# Altium schematic symbol library Regulator_Linear.SchLib: 1620 symbols (part 1 of 16)
Pins are listed as number, name and electrical type; pins without a type are passive.

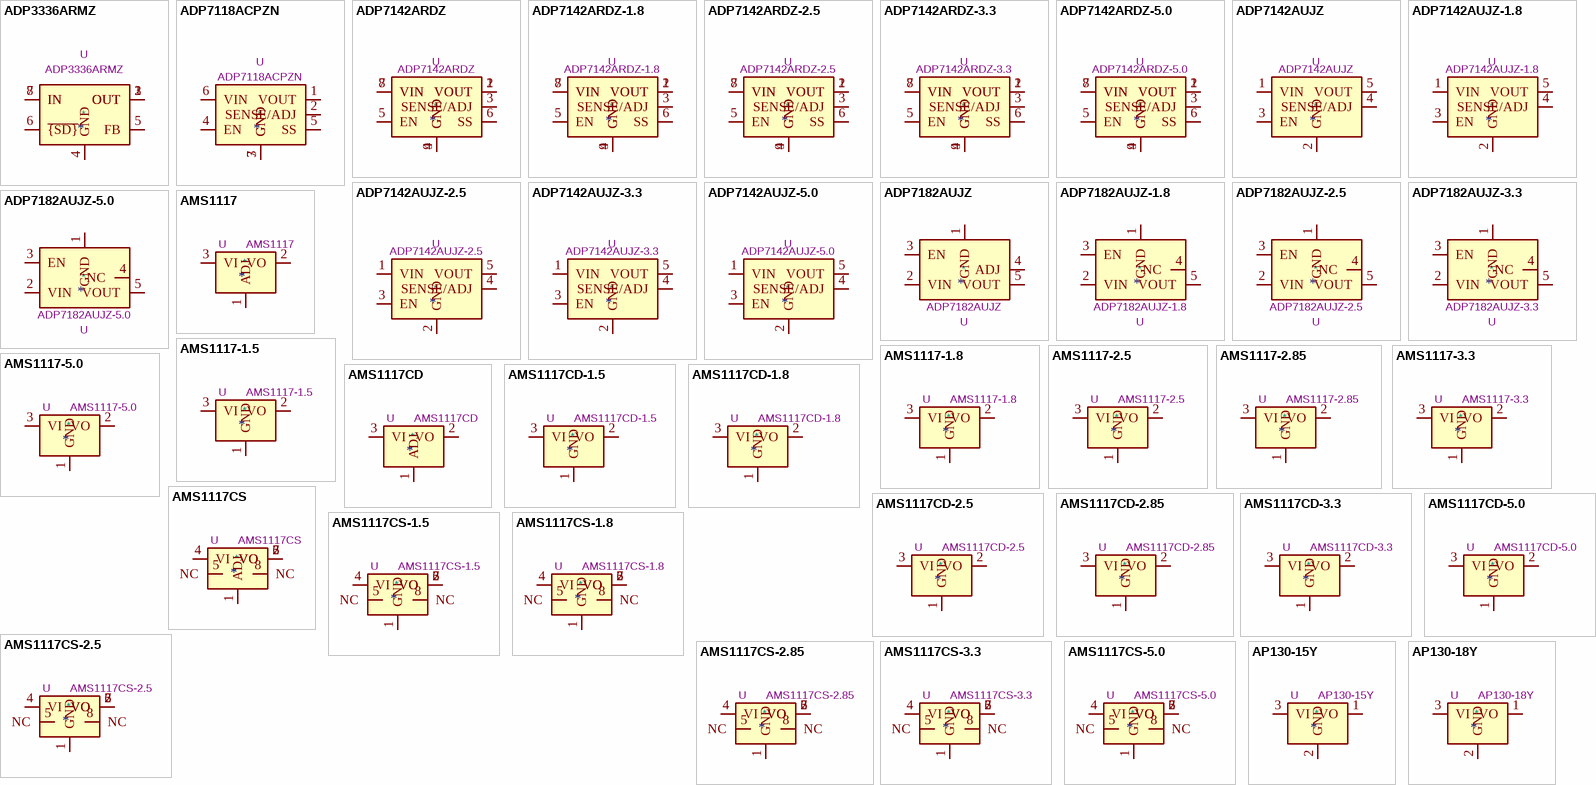
[diagram p0: symbols ADP3336ARMZ to AP130-18Y]

## ADP3336ARMZ
designator *  value ADP3336ARMZ  Reference: U
High Accuracy Ultralow IQ, 500mA anyCAP Adjustable Low Dropout Regulator, MSOP-8; ki_keywords: linear regulator ldo adjustable positive; ki_fp_filters: MSOP*3x3mm*P0.65mm*; Footprint: Package_SO:MSOP-8_3x3mm_P0.65mm; Datasheet: https://www.analog.com/media/en/technical-documentation/data-sheets/ADP3336.pdf; Description_: High Accuracy Ultralow IQ, 500mA anyCAP Adjustable Low Dropout Regulator, MSOP-8
pins: 1 OUT, 2 OUT, 3 OUT, 4 GND, 5 FB, 6 ~{{SD}}, 7 IN, 8 IN

## ADP7118ACPZN
designator *  value ADP7118ACPZN  Reference: U
200mA, Low Noise, CMOS Low Dropout Regulator, Positive, Adjustable, LFCSP-6; ki_keywords: linear regulator ldo adjustable positive; ki_fp_filters: LFCSP*1EP*2x2mm*P0.65mm*; Footprint: Package_CSP:LFCSP-6-1EP_2x2mm_P0.65mm_EP1x1.6mm; Datasheet: https://www.analog.com/media/en/technical-documentation/data-sheets/ADP7142.pdf; Description_: 200mA, Low Noise, CMOS Low Dropout Regulator, Positive, Adjustable, LFCSP-6
pins: 1 VOUT, 2 SENSE/ADJ, 3 GND, 4 EN, 5 SS, 6 VIN, 7 GND

## ADP7142ARDZ
designator *  value ADP7142ARDZ  Reference: U
200mA, Low Noise, CMOS Low Dropout Regulator, Positive, Adjustable, SOIC-8; ki_keywords: linear regulator ldo adjustable positive; ki_fp_filters: SOIC*1EP*3.9x4.9mm*P1.27mm*; Footprint: Package_SO:SOIC-8-1EP_3.9x4.9mm_P1.27mm_EP2.29x3mm; Datasheet: https://www.analog.com/media/en/technical-documentation/data-sheets/ADP7142.pdf; Description_: 200mA, Low Noise, CMOS Low Dropout Regulator, Positive, Adjustable, SOIC-8
pins: 1 VOUT, 2 VOUT, 3 SENSE/ADJ, 4 GND, 5 EN, 6 SS, 7 VIN, 8 VIN, 9 GND

## ADP7142ARDZ-1.8
designator *  value ADP7142ARDZ-1.8  Reference: U
200mA, Low Noise, CMOS Low Dropout Regulator, Positive, 1.8V Fixed Output, SOIC-8; ki_keywords: linear regulator ldo fixed positive; ki_fp_filters: SOIC*1EP*3.9x4.9mm*P1.27mm*; Footprint: Package_SO:SOIC-8-1EP_3.9x4.9mm_P1.27mm_EP2.29x3mm; Datasheet: https://www.analog.com/media/en/technical-documentation/data-sheets/ADP7142.pdf; Description_: 200mA, Low Noise, CMOS Low Dropout Regulator, Positive, 1.8V Fixed Output, SOIC-8
pins: 1 VOUT, 2 VOUT, 3 SENSE/ADJ, 4 GND, 5 EN, 6 SS, 7 VIN, 8 VIN, 9 GND

## ADP7142ARDZ-2.5
designator *  value ADP7142ARDZ-2.5  Reference: U
200mA, Low Noise, CMOS Low Dropout Regulator, Positive, 2.5V Fixed Output, SOIC-8; ki_keywords: linear regulator ldo fixed positive; ki_fp_filters: SOIC*1EP*3.9x4.9mm*P1.27mm*; Footprint: Package_SO:SOIC-8-1EP_3.9x4.9mm_P1.27mm_EP2.29x3mm; Datasheet: https://www.analog.com/media/en/technical-documentation/data-sheets/ADP7142.pdf; Description_: 200mA, Low Noise, CMOS Low Dropout Regulator, Positive, 2.5V Fixed Output, SOIC-8
pins: 1 VOUT, 2 VOUT, 3 SENSE/ADJ, 4 GND, 5 EN, 6 SS, 7 VIN, 8 VIN, 9 GND

## ADP7142ARDZ-3.3
designator *  value ADP7142ARDZ-3.3  Reference: U
200mA, Low Noise, CMOS Low Dropout Regulator, Positive, 3.3V Fixed Output, SOIC-8; ki_keywords: linear regulator ldo fixed positive; ki_fp_filters: SOIC*1EP*3.9x4.9mm*P1.27mm*; Footprint: Package_SO:SOIC-8-1EP_3.9x4.9mm_P1.27mm_EP2.29x3mm; Datasheet: https://www.analog.com/media/en/technical-documentation/data-sheets/ADP7142.pdf; Description_: 200mA, Low Noise, CMOS Low Dropout Regulator, Positive, 3.3V Fixed Output, SOIC-8
pins: 1 VOUT, 2 VOUT, 3 SENSE/ADJ, 4 GND, 5 EN, 6 SS, 7 VIN, 8 VIN, 9 GND

## ADP7142ARDZ-5.0
designator *  value ADP7142ARDZ-5.0  Reference: U
200mA, Low Noise, CMOS Low Dropout Regulator, Positive, 5.0V Fixed Output, SOIC-8; ki_keywords: linear regulator ldo fixed positive; ki_fp_filters: SOIC*1EP*3.9x4.9mm*P1.27mm*; Footprint: Package_SO:SOIC-8-1EP_3.9x4.9mm_P1.27mm_EP2.29x3mm; Datasheet: https://www.analog.com/media/en/technical-documentation/data-sheets/ADP7142.pdf; Description_: 200mA, Low Noise, CMOS Low Dropout Regulator, Positive, 5.0V Fixed Output, SOIC-8
pins: 1 VOUT, 2 VOUT, 3 SENSE/ADJ, 4 GND, 5 EN, 6 SS, 7 VIN, 8 VIN, 9 GND

## ADP7142AUJZ
designator *  value ADP7142AUJZ  Reference: U
200mA, Low Noise, CMOS Low Dropout Regulator, Positive, Adjustable, TSOT-23-5; ki_keywords: linear regulator ldo adjustable positive; ki_fp_filters: TSOT?23*; Footprint: Package_TO_SOT_SMD:TSOT-23-5; Datasheet: https://www.analog.com/media/en/technical-documentation/data-sheets/ADP7142.pdf; Description_: 200mA, Low Noise, CMOS Low Dropout Regulator, Positive, Adjustable, TSOT-23-5
pins: 1 VIN, 2 GND, 3 EN, 4 SENSE/ADJ, 5 VOUT

## ADP7142AUJZ-1.8
designator *  value ADP7142AUJZ-1.8  Reference: U
200mA, Low Noise, CMOS Low Dropout Regulator, Positive, 1.8V Fixed Output, TSOT-23-5; ki_keywords: linear regulator ldo fixed positive; ki_fp_filters: TSOT?23*; Footprint: Package_TO_SOT_SMD:TSOT-23-5; Datasheet: https://www.analog.com/media/en/technical-documentation/data-sheets/ADP7142.pdf; Description_: 200mA, Low Noise, CMOS Low Dropout Regulator, Positive, 1.8V Fixed Output, TSOT-23-5
pins: 1 VIN, 2 GND, 3 EN, 4 SENSE/ADJ, 5 VOUT

## ADP7142AUJZ-2.5
designator *  value ADP7142AUJZ-2.5  Reference: U
200mA, Low Noise, CMOS Low Dropout Regulator, Positive, 2.5V Fixed Output, TSOT-23-5; ki_keywords: linear regulator ldo fixed positive; ki_fp_filters: TSOT?23*; Footprint: Package_TO_SOT_SMD:TSOT-23-5; Datasheet: https://www.analog.com/media/en/technical-documentation/data-sheets/ADP7142.pdf; Description_: 200mA, Low Noise, CMOS Low Dropout Regulator, Positive, 2.5V Fixed Output, TSOT-23-5
pins: 1 VIN, 2 GND, 3 EN, 4 SENSE/ADJ, 5 VOUT

## ADP7142AUJZ-3.3
designator *  value ADP7142AUJZ-3.3  Reference: U
200mA, Low Noise, CMOS Low Dropout Regulator, Positive, 3.3V Fixed Output, TSOT-23-5; ki_keywords: linear regulator ldo fixed positive; ki_fp_filters: TSOT?23*; Footprint: Package_TO_SOT_SMD:TSOT-23-5; Datasheet: https://www.analog.com/media/en/technical-documentation/data-sheets/ADP7142.pdf; Description_: 200mA, Low Noise, CMOS Low Dropout Regulator, Positive, 3.3V Fixed Output, TSOT-23-5
pins: 1 VIN, 2 GND, 3 EN, 4 SENSE/ADJ, 5 VOUT

## ADP7142AUJZ-5.0
designator *  value ADP7142AUJZ-5.0  Reference: U
200mA, Low Noise, CMOS Low Dropout Regulator, Positive, 5.0V Fixed Output, TSOT-23-5; ki_keywords: linear regulator ldo fixed positive; ki_fp_filters: TSOT?23*; Footprint: Package_TO_SOT_SMD:TSOT-23-5; Datasheet: https://www.analog.com/media/en/technical-documentation/data-sheets/ADP7142.pdf; Description_: 200mA, Low Noise, CMOS Low Dropout Regulator, Positive, 5.0V Fixed Output, TSOT-23-5
pins: 1 VIN, 2 GND, 3 EN, 4 SENSE/ADJ, 5 VOUT

## ADP7182AUJZ
designator *  value ADP7182AUJZ  Reference: U
200mA, Low Noise, CMOS Low Dropout Regulator, Negative, Adjustable, TSOT-23-5; ki_keywords: linear regulator ldo adjustable negative; ki_fp_filters: TSOT?23*; Footprint: Package_TO_SOT_SMD:TSOT-23-5; Datasheet: https://www.analog.com/media/en/technical-documentation/data-sheets/ADP7182.pdf; Description_: 200mA, Low Noise, CMOS Low Dropout Regulator, Negative, Adjustable, TSOT-23-5
pins: 1 GND, 2 VIN, 3 EN, 4 ADJ, 5 VOUT

## ADP7182AUJZ-1.8
designator *  value ADP7182AUJZ-1.8  Reference: U
200mA, Low Noise, CMOS Low Dropout Regulator, Negative, -1.8V Fixed Output, TSOT-23-5; ki_keywords: linear regulator ldo fixed negative; ki_fp_filters: TSOT?23*; Footprint: Package_TO_SOT_SMD:TSOT-23-5; Datasheet: https://www.analog.com/media/en/technical-documentation/data-sheets/ADP7182.pdf; Description_: 200mA, Low Noise, CMOS Low Dropout Regulator, Negative, -1.8V Fixed Output, TSOT-23-5
pins: 1 GND, 2 VIN, 3 EN, 4 NC, 5 VOUT

## ADP7182AUJZ-2.5
designator *  value ADP7182AUJZ-2.5  Reference: U
200mA, Low Noise, CMOS Low Dropout Regulator, Negative, -2.5V Fixed Output, TSOT-23-5; ki_keywords: linear regulator ldo fixed negative; ki_fp_filters: TSOT?23*; Footprint: Package_TO_SOT_SMD:TSOT-23-5; Datasheet: https://www.analog.com/media/en/technical-documentation/data-sheets/ADP7182.pdf; Description_: 200mA, Low Noise, CMOS Low Dropout Regulator, Negative, -2.5V Fixed Output, TSOT-23-5
pins: 1 GND, 2 VIN, 3 EN, 4 NC, 5 VOUT

## ADP7182AUJZ-3.3
designator *  value ADP7182AUJZ-3.3  Reference: U
200mA, Low Noise, CMOS Low Dropout Regulator, Negative, -3.3V Fixed Output, TSOT-23-5; ki_keywords: linear regulator ldo fixed negative; ki_fp_filters: TSOT?23*; Footprint: Package_TO_SOT_SMD:TSOT-23-5; Datasheet: https://www.analog.com/media/en/technical-documentation/data-sheets/ADP7182.pdf; Description_: 200mA, Low Noise, CMOS Low Dropout Regulator, Negative, -3.3V Fixed Output, TSOT-23-5
pins: 1 GND, 2 VIN, 3 EN, 4 NC, 5 VOUT

## ADP7182AUJZ-5.0
designator *  value ADP7182AUJZ-5.0  Reference: U
200mA, Low Noise, CMOS Low Dropout Regulator, Negative, -5.0V Fixed Output, TSOT-23-5; ki_keywords: linear regulator ldo fixed negative; ki_fp_filters: TSOT?23*; Footprint: Package_TO_SOT_SMD:TSOT-23-5; Datasheet: https://www.analog.com/media/en/technical-documentation/data-sheets/ADP7182.pdf; Description_: 200mA, Low Noise, CMOS Low Dropout Regulator, Negative, -5.0V Fixed Output, TSOT-23-5
pins: 1 GND, 2 VIN, 3 EN, 4 NC, 5 VOUT

## AMS1117
designator *  value AMS1117  Reference: U
1A Low Dropout regulator, positive, adjustable output, SOT-223; ki_keywords: linear regulator ldo adjustable positive; ki_fp_filters: SOT?223*TabPin2*; Footprint: Package_TO_SOT_SMD:SOT-223-3_TabPin2; Datasheet: http://www.advanced-monolithic.com/pdf/ds1117.pdf; Description_: 1A Low Dropout regulator, positive, adjustable output, SOT-223
pins: 1 ADJ, 2 VO, 3 VI

## AMS1117-1.5
designator *  value AMS1117-1.5  Reference: U
1A Low Dropout regulator, positive, 1.5V fixed output, SOT-223; ki_keywords: linear regulator ldo fixed positive; ki_fp_filters: SOT?223*TabPin2*; Footprint: Package_TO_SOT_SMD:SOT-223-3_TabPin2; Datasheet: http://www.advanced-monolithic.com/pdf/ds1117.pdf; Description_: 1A Low Dropout regulator, positive, 1.5V fixed output, SOT-223
pins: 1 GND, 2 VO, 3 VI

## AMS1117-1.8
designator *  value AMS1117-1.8  Reference: U
1A Low Dropout regulator, positive, 1.8V fixed output, SOT-223; ki_keywords: linear regulator ldo fixed positive; ki_fp_filters: SOT?223*TabPin2*; Footprint: Package_TO_SOT_SMD:SOT-223-3_TabPin2; Datasheet: http://www.advanced-monolithic.com/pdf/ds1117.pdf; Description_: 1A Low Dropout regulator, positive, 1.8V fixed output, SOT-223
pins: 1 GND, 2 VO, 3 VI

## AMS1117-2.5
designator *  value AMS1117-2.5  Reference: U
1A Low Dropout regulator, positive, 2.5V fixed output, SOT-223; ki_keywords: linear regulator ldo fixed positive; ki_fp_filters: SOT?223*TabPin2*; Footprint: Package_TO_SOT_SMD:SOT-223-3_TabPin2; Datasheet: http://www.advanced-monolithic.com/pdf/ds1117.pdf; Description_: 1A Low Dropout regulator, positive, 2.5V fixed output, SOT-223
pins: 1 GND, 2 VO, 3 VI

## AMS1117-2.85
designator *  value AMS1117-2.85  Reference: U
1A Low Dropout regulator, positive, 2.85V fixed output, SOT-223; ki_keywords: linear regulator ldo fixed positive; ki_fp_filters: SOT?223*TabPin2*; Footprint: Package_TO_SOT_SMD:SOT-223-3_TabPin2; Datasheet: http://www.advanced-monolithic.com/pdf/ds1117.pdf; Description_: 1A Low Dropout regulator, positive, 2.85V fixed output, SOT-223
pins: 1 GND, 2 VO, 3 VI

## AMS1117-3.3
designator *  value AMS1117-3.3  Reference: U
1A Low Dropout regulator, positive, 3.3V fixed output, SOT-223; ki_keywords: linear regulator ldo fixed positive; ki_fp_filters: SOT?223*TabPin2*; Footprint: Package_TO_SOT_SMD:SOT-223-3_TabPin2; Datasheet: http://www.advanced-monolithic.com/pdf/ds1117.pdf; Description_: 1A Low Dropout regulator, positive, 3.3V fixed output, SOT-223
footprint SOT-223-3_TabPin2
pins: 1 GND, 2 VO, 3 VI

## AMS1117-5.0
designator *  value AMS1117-5.0  Reference: U
1A Low Dropout regulator, positive, 5.0V fixed output, SOT-223; ki_keywords: linear regulator ldo fixed positive; ki_fp_filters: SOT?223*TabPin2*; Footprint: Package_TO_SOT_SMD:SOT-223-3_TabPin2; Datasheet: http://www.advanced-monolithic.com/pdf/ds1117.pdf; Description_: 1A Low Dropout regulator, positive, 5.0V fixed output, SOT-223
pins: 1 GND, 2 VO, 3 VI

## AMS1117CD
designator *  value AMS1117CD  Reference: U
1A Low Dropout regulator, positive, adjustable output, TO-252; ki_keywords: linear regulator ldo fixed positive; ki_fp_filters: TO?252*TabPin2*; Footprint: Package_TO_SOT_SMD:TO-252-3_TabPin2; Datasheet: http://www.advanced-monolithic.com/pdf/ds1117.pdf; Description_: 1A Low Dropout regulator, positive, adjustable output, TO-252
pins: 1 ADJ, 2 VO, 3 VI

## AMS1117CD-1.5
designator *  value AMS1117CD-1.5  Reference: U
1A Low Dropout regulator, positive, 1.5V fixed output, TO-252; ki_keywords: linear regulator ldo fixed positive; ki_fp_filters: TO?252*TabPin2*; Footprint: Package_TO_SOT_SMD:TO-252-3_TabPin2; Datasheet: http://www.advanced-monolithic.com/pdf/ds1117.pdf; Description_: 1A Low Dropout regulator, positive, 1.5V fixed output, TO-252
pins: 1 GND, 2 VO, 3 VI

## AMS1117CD-1.8
designator *  value AMS1117CD-1.8  Reference: U
1A Low Dropout regulator, positive, 1.8V fixed output, TO-252; ki_keywords: linear regulator ldo fixed positive; ki_fp_filters: TO?252*TabPin2*; Footprint: Package_TO_SOT_SMD:TO-252-3_TabPin2; Datasheet: http://www.advanced-monolithic.com/pdf/ds1117.pdf; Description_: 1A Low Dropout regulator, positive, 1.8V fixed output, TO-252
pins: 1 GND, 2 VO, 3 VI

## AMS1117CD-2.5
designator *  value AMS1117CD-2.5  Reference: U
1A Low Dropout regulator, positive, 2.5V fixed output, TO-252; ki_keywords: linear regulator ldo fixed positive; ki_fp_filters: TO?252*TabPin2*; Footprint: Package_TO_SOT_SMD:TO-252-3_TabPin2; Datasheet: http://www.advanced-monolithic.com/pdf/ds1117.pdf; Description_: 1A Low Dropout regulator, positive, 2.5V fixed output, TO-252
pins: 1 GND, 2 VO, 3 VI

## AMS1117CD-2.85
designator *  value AMS1117CD-2.85  Reference: U
1A Low Dropout regulator, positive, 2.85V fixed output, TO-252; ki_keywords: linear regulator ldo fixed positive; ki_fp_filters: TO?252*TabPin2*; Footprint: Package_TO_SOT_SMD:TO-252-3_TabPin2; Datasheet: http://www.advanced-monolithic.com/pdf/ds1117.pdf; Description_: 1A Low Dropout regulator, positive, 2.85V fixed output, TO-252
pins: 1 GND, 2 VO, 3 VI

## AMS1117CD-3.3
designator *  value AMS1117CD-3.3  Reference: U
1A Low Dropout regulator, positive, 3.3V fixed output, TO-252; ki_keywords: linear regulator ldo fixed positive; ki_fp_filters: TO?252*TabPin2*; Footprint: Package_TO_SOT_SMD:TO-252-3_TabPin2; Datasheet: http://www.advanced-monolithic.com/pdf/ds1117.pdf; Description_: 1A Low Dropout regulator, positive, 3.3V fixed output, TO-252
pins: 1 GND, 2 VO, 3 VI

## AMS1117CD-5.0
designator *  value AMS1117CD-5.0  Reference: U
1A Low Dropout regulator, positive, 5.0V fixed output, TO-252; ki_keywords: linear regulator ldo fixed positive; ki_fp_filters: TO?252*TabPin2*; Footprint: Package_TO_SOT_SMD:TO-252-3_TabPin2; Datasheet: http://www.advanced-monolithic.com/pdf/ds1117.pdf; Description_: 1A Low Dropout regulator, positive, 5.0V fixed output, TO-252
pins: 1 GND, 2 VO, 3 VI

## AMS1117CS
designator *  value AMS1117CS  Reference: U
1A Low Dropout regulator, positive, adjustable output, SOIC-8; ki_keywords: linear regulator ldo fixed positive; ki_fp_filters: SOIC*3.9x4.9mm*P1.27mm*; Footprint: Package_SO:SOIC-8_3.9x4.9mm_P1.27mm; Datasheet: http://www.advanced-monolithic.com/pdf/ds1117.pdf; Description_: 1A Low Dropout regulator, positive, adjustable output, SOIC-8
pins: 1 ADJ, 2 VO, 3 VO, 4 VI, 5 NC, 6 VO, 7 VO, 8 NC

## AMS1117CS-1.5
designator *  value AMS1117CS-1.5  Reference: U
1A Low Dropout regulator, positive, 1.5V fixed output, SOIC-8; ki_keywords: linear regulator ldo fixed positive; ki_fp_filters: SOIC*3.9x4.9mm*P1.27mm*; Footprint: Package_SO:SOIC-8_3.9x4.9mm_P1.27mm; Datasheet: http://www.advanced-monolithic.com/pdf/ds1117.pdf; Description_: 1A Low Dropout regulator, positive, 1.5V fixed output, SOIC-8
pins: 1 GND, 2 VO, 3 VO, 4 VI, 5 NC, 6 VO, 7 VO, 8 NC

## AMS1117CS-1.8
designator *  value AMS1117CS-1.8  Reference: U
1A Low Dropout regulator, positive, 1.8V fixed output, SOIC-8; ki_keywords: linear regulator ldo fixed positive; ki_fp_filters: SOIC*3.9x4.9mm*P1.27mm*; Footprint: Package_SO:SOIC-8_3.9x4.9mm_P1.27mm; Datasheet: http://www.advanced-monolithic.com/pdf/ds1117.pdf; Description_: 1A Low Dropout regulator, positive, 1.8V fixed output, SOIC-8
pins: 1 GND, 2 VO, 3 VO, 4 VI, 5 NC, 6 VO, 7 VO, 8 NC

## AMS1117CS-2.5
designator *  value AMS1117CS-2.5  Reference: U
1A Low Dropout regulator, positive, 2.5V fixed output, SOIC-8; ki_keywords: linear regulator ldo fixed positive; ki_fp_filters: SOIC*3.9x4.9mm*P1.27mm*; Footprint: Package_SO:SOIC-8_3.9x4.9mm_P1.27mm; Datasheet: http://www.advanced-monolithic.com/pdf/ds1117.pdf; Description_: 1A Low Dropout regulator, positive, 2.5V fixed output, SOIC-8
pins: 1 GND, 2 VO, 3 VO, 4 VI, 5 NC, 6 VO, 7 VO, 8 NC

## AMS1117CS-2.85
designator *  value AMS1117CS-2.85  Reference: U
1A Low Dropout regulator, positive, 2.85V fixed output, SOIC-8; ki_keywords: linear regulator ldo fixed positive; ki_fp_filters: SOIC*3.9x4.9mm*P1.27mm*; Footprint: Package_SO:SOIC-8_3.9x4.9mm_P1.27mm; Datasheet: http://www.advanced-monolithic.com/pdf/ds1117.pdf; Description_: 1A Low Dropout regulator, positive, 2.85V fixed output, SOIC-8
pins: 1 GND, 2 VO, 3 VO, 4 VI, 5 NC, 6 VO, 7 VO, 8 NC

## AMS1117CS-3.3
designator *  value AMS1117CS-3.3  Reference: U
1A Low Dropout regulator, positive, 3.3V fixed output, SOIC-8; ki_keywords: linear regulator ldo fixed positive; ki_fp_filters: SOIC*3.9x4.9mm*P1.27mm*; Footprint: Package_SO:SOIC-8_3.9x4.9mm_P1.27mm; Datasheet: http://www.advanced-monolithic.com/pdf/ds1117.pdf; Description_: 1A Low Dropout regulator, positive, 3.3V fixed output, SOIC-8
pins: 1 GND, 2 VO, 3 VO, 4 VI, 5 NC, 6 VO, 7 VO, 8 NC

## AMS1117CS-5.0
designator *  value AMS1117CS-5.0  Reference: U
1A Low Dropout regulator, positive, 5.0V fixed output, SOIC-8; ki_keywords: linear regulator ldo fixed positive; ki_fp_filters: SOIC*3.9x4.9mm*P1.27mm*; Footprint: Package_SO:SOIC-8_3.9x4.9mm_P1.27mm; Datasheet: http://www.advanced-monolithic.com/pdf/ds1117.pdf; Description_: 1A Low Dropout regulator, positive, 5.0V fixed output, SOIC-8
pins: 1 GND, 2 VO, 3 VO, 4 VI, 5 NC, 6 VO, 7 VO, 8 NC

## AP130-15Y
designator *  value AP130-15Y  Reference: U
0.3A Low Dropout regulator, positive, 1.5V fixed output, SOT-89; ki_keywords: linear regulator ldo fixed positive; ki_fp_filters: SOT?89*3*; Footprint: Package_TO_SOT_SMD:SOT-89-3; Datasheet: https://www.diodes.com/assets/Datasheets/AP130.pdf; Description_: 0.3A Low Dropout regulator, positive, 1.5V fixed output, SOT-89
pins: 1 VO, 2 GND, 3 VI

## AP130-18Y
designator *  value AP130-18Y  Reference: U
0.3A Low Dropout regulator, positive, 1.8V fixed output, SOT-89; ki_keywords: linear regulator ldo fixed positive; ki_fp_filters: SOT?89*3*; Footprint: Package_TO_SOT_SMD:SOT-89-3; Datasheet: https://www.diodes.com/assets/Datasheets/AP130.pdf; Description_: 0.3A Low Dropout regulator, positive, 1.8V fixed output, SOT-89
pins: 1 VO, 2 GND, 3 VI

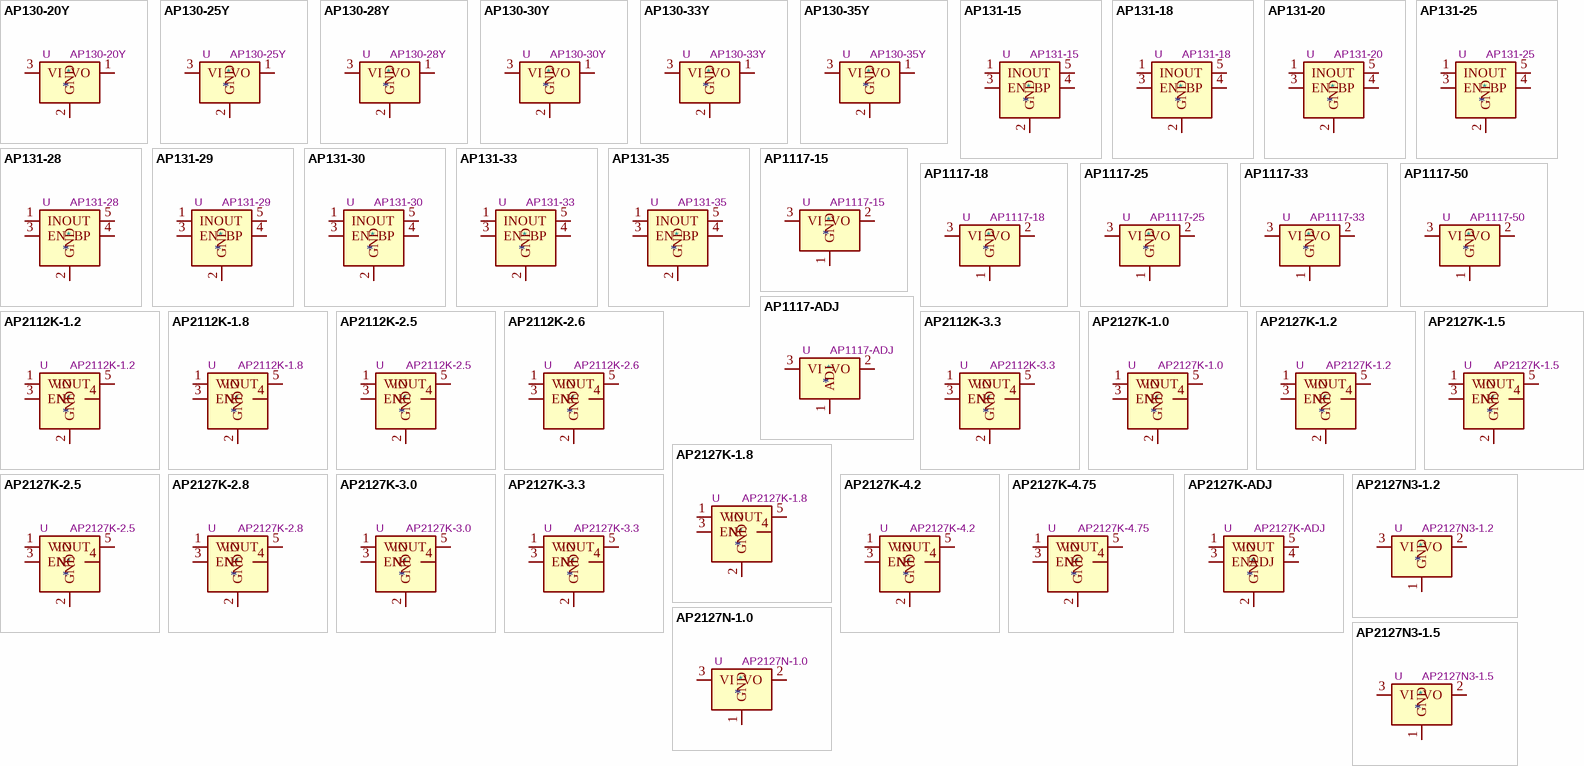
[diagram p1: symbols AP130-20Y to AP2127N-1.0]

## AP130-20Y
designator *  value AP130-20Y  Reference: U
0.3A Low Dropout regulator, positive, 2.0V fixed output, SOT-89; ki_keywords: linear regulator ldo fixed positive; ki_fp_filters: SOT?89*3*; Footprint: Package_TO_SOT_SMD:SOT-89-3; Datasheet: https://www.diodes.com/assets/Datasheets/AP130.pdf; Description_: 0.3A Low Dropout regulator, positive, 2.0V fixed output, SOT-89
pins: 1 VO, 2 GND, 3 VI

## AP130-25Y
designator *  value AP130-25Y  Reference: U
0.3A Low Dropout regulator, positive, 2.5V fixed output, SOT-89; ki_keywords: linear regulator ldo fixed positive; ki_fp_filters: SOT?89*3*; Footprint: Package_TO_SOT_SMD:SOT-89-3; Datasheet: https://www.diodes.com/assets/Datasheets/AP130.pdf; Description_: 0.3A Low Dropout regulator, positive, 2.5V fixed output, SOT-89
pins: 1 VO, 2 GND, 3 VI

## AP130-28Y
designator *  value AP130-28Y  Reference: U
0.3A Low Dropout regulator, positive, 2.8V fixed output, SOT-89; ki_keywords: linear regulator ldo fixed positive; ki_fp_filters: SOT?89*3*; Footprint: Package_TO_SOT_SMD:SOT-89-3; Datasheet: https://www.diodes.com/assets/Datasheets/AP130.pdf; Description_: 0.3A Low Dropout regulator, positive, 2.8V fixed output, SOT-89
pins: 1 VO, 2 GND, 3 VI

## AP130-30Y
designator *  value AP130-30Y  Reference: U
0.3A Low Dropout regulator, positive, 3.0V fixed output, SOT-89; ki_keywords: linear regulator ldo fixed positive; ki_fp_filters: SOT?89*3*; Footprint: Package_TO_SOT_SMD:SOT-89-3; Datasheet: https://www.diodes.com/assets/Datasheets/AP130.pdf; Description_: 0.3A Low Dropout regulator, positive, 3.0V fixed output, SOT-89
pins: 1 VO, 2 GND, 3 VI

## AP130-33Y
designator *  value AP130-33Y  Reference: U
0.3A Low Dropout regulator, positive, 3.3V fixed output, SOT-89; ki_keywords: linear regulator ldo fixed positive; ki_fp_filters: SOT?89*3*; Footprint: Package_TO_SOT_SMD:SOT-89-3; Datasheet: https://www.diodes.com/assets/Datasheets/AP130.pdf; Description_: 0.3A Low Dropout regulator, positive, 3.3V fixed output, SOT-89
pins: 1 VO, 2 GND, 3 VI

## AP130-35Y
designator *  value AP130-35Y  Reference: U
0.3A Low Dropout regulator, positive, 3.5V fixed output, SOT-89; ki_keywords: linear regulator ldo fixed positive; ki_fp_filters: SOT?89*3*; Footprint: Package_TO_SOT_SMD:SOT-89-3; Datasheet: https://www.diodes.com/assets/Datasheets/AP130.pdf; Description_: 0.3A Low Dropout regulator, positive, 3.5V fixed output, SOT-89
pins: 1 VO, 2 GND, 3 VI

## AP131-15
designator *  value AP131-15  Reference: U
300mA low dropout linear regulator, shutdown pin, 1.5V fixed positive output, SOT-23-5; ki_keywords: linear regulator ldo fixed positive; ki_fp_filters: SOT?23*; Footprint: Package_TO_SOT_SMD:SOT-23-5; Datasheet: http://www.diodes.com/_files/datasheets/AP131.pdf; Description_: 300mA low dropout linear regulator, shutdown pin, 1.5V fixed positive output, SOT-23-5
pins: 1 IN, 2 GND, 3 EN, 4 BP, 5 OUT

## AP131-18
designator *  value AP131-18  Reference: U
300mA low dropout linear regulator, shutdown pin, 1.8V fixed positive output, SOT-23-5; ki_keywords: linear regulator ldo fixed positive; ki_fp_filters: SOT?23*; Footprint: Package_TO_SOT_SMD:SOT-23-5; Datasheet: http://www.diodes.com/_files/datasheets/AP131.pdf; Description_: 300mA low dropout linear regulator, shutdown pin, 1.8V fixed positive output, SOT-23-5
pins: 1 IN, 2 GND, 3 EN, 4 BP, 5 OUT

## AP131-20
designator *  value AP131-20  Reference: U
300mA low dropout linear regulator, shutdown pin, 2.0V fixed positive output, SOT-23-5; ki_keywords: linear regulator ldo fixed positive; ki_fp_filters: SOT?23*; Footprint: Package_TO_SOT_SMD:SOT-23-5; Datasheet: http://www.diodes.com/_files/datasheets/AP131.pdf; Description_: 300mA low dropout linear regulator, shutdown pin, 2.0V fixed positive output, SOT-23-5
pins: 1 IN, 2 GND, 3 EN, 4 BP, 5 OUT

## AP131-25
designator *  value AP131-25  Reference: U
300mA low dropout linear regulator, shutdown pin, 2.5V fixed positive output, SOT-23-5; ki_keywords: linear regulator ldo fixed positive; ki_fp_filters: SOT?23*; Footprint: Package_TO_SOT_SMD:SOT-23-5; Datasheet: http://www.diodes.com/_files/datasheets/AP131.pdf; Description_: 300mA low dropout linear regulator, shutdown pin, 2.5V fixed positive output, SOT-23-5
pins: 1 IN, 2 GND, 3 EN, 4 BP, 5 OUT

## AP131-28
designator *  value AP131-28  Reference: U
300mA low dropout linear regulator, shutdown pin, 2.8V fixed positive output, SOT-23-5; ki_keywords: linear regulator ldo fixed positive; ki_fp_filters: SOT?23*; Footprint: Package_TO_SOT_SMD:SOT-23-5; Datasheet: http://www.diodes.com/_files/datasheets/AP131.pdf; Description_: 300mA low dropout linear regulator, shutdown pin, 2.8V fixed positive output, SOT-23-5
pins: 1 IN, 2 GND, 3 EN, 4 BP, 5 OUT

## AP131-29
designator *  value AP131-29  Reference: U
300mA low dropout linear regulator, shutdown pin, 2.9V fixed positive output, SOT-23-5; ki_keywords: linear regulator ldo fixed positive; ki_fp_filters: SOT?23*; Footprint: Package_TO_SOT_SMD:SOT-23-5; Datasheet: http://www.diodes.com/_files/datasheets/AP131.pdf; Description_: 300mA low dropout linear regulator, shutdown pin, 2.9V fixed positive output, SOT-23-5
pins: 1 IN, 2 GND, 3 EN, 4 BP, 5 OUT

## AP131-30
designator *  value AP131-30  Reference: U
300mA low dropout linear regulator, shutdown pin, 3.0V fixed positive output, SOT-23-5; ki_keywords: linear regulator ldo fixed positive; ki_fp_filters: SOT?23*; Footprint: Package_TO_SOT_SMD:SOT-23-5; Datasheet: http://www.diodes.com/_files/datasheets/AP131.pdf; Description_: 300mA low dropout linear regulator, shutdown pin, 3.0V fixed positive output, SOT-23-5
pins: 1 IN, 2 GND, 3 EN, 4 BP, 5 OUT

## AP131-33
designator *  value AP131-33  Reference: U
300mA low dropout linear regulator, shutdown pin, 3.3V fixed positive output, SOT-23-5; ki_keywords: linear regulator ldo fixed positive; ki_fp_filters: SOT?23*; Footprint: Package_TO_SOT_SMD:SOT-23-5; Datasheet: http://www.diodes.com/_files/datasheets/AP131.pdf; Description_: 300mA low dropout linear regulator, shutdown pin, 3.3V fixed positive output, SOT-23-5
pins: 1 IN, 2 GND, 3 EN, 4 BP, 5 OUT

## AP131-35
designator *  value AP131-35  Reference: U
300mA low dropout linear regulator, shutdown pin, 3.5V fixed positive output, SOT-23-5; ki_keywords: linear regulator ldo fixed positive; ki_fp_filters: SOT?23*; Footprint: Package_TO_SOT_SMD:SOT-23-5; Datasheet: http://www.diodes.com/_files/datasheets/AP131.pdf; Description_: 300mA low dropout linear regulator, shutdown pin, 3.5V fixed positive output, SOT-23-5
pins: 1 IN, 2 GND, 3 EN, 4 BP, 5 OUT

## AP1117-15
designator *  value AP1117-15  Reference: U
1A Low Dropout regulator, positive, 1.5V fixed output, SOT-223; ki_keywords: linear regulator ldo fixed positive obsolete; ki_fp_filters: SOT?223*TabPin2*; Footprint: Package_TO_SOT_SMD:SOT-223-3_TabPin2; Datasheet: http://www.diodes.com/datasheets/AP1117.pdf; Description_: 1A Low Dropout regulator, positive, 1.5V fixed output, SOT-223
pins: 1 GND, 2 VO, 3 VI

## AP1117-18
designator *  value AP1117-18  Reference: U
1A Low Dropout regulator, positive, 1.8V fixed output, SOT-223; ki_keywords: linear regulator ldo fixed positive obsolete; ki_fp_filters: SOT?223*TabPin2*; Footprint: Package_TO_SOT_SMD:SOT-223-3_TabPin2; Datasheet: http://www.diodes.com/datasheets/AP1117.pdf; Description_: 1A Low Dropout regulator, positive, 1.8V fixed output, SOT-223
pins: 1 GND, 2 VO, 3 VI

## AP1117-25
designator *  value AP1117-25  Reference: U
1A Low Dropout regulator, positive, 2.5V fixed output, SOT-223; ki_keywords: linear regulator ldo fixed positive obsolete; ki_fp_filters: SOT?223*TabPin2*; Footprint: Package_TO_SOT_SMD:SOT-223-3_TabPin2; Datasheet: http://www.diodes.com/datasheets/AP1117.pdf; Description_: 1A Low Dropout regulator, positive, 2.5V fixed output, SOT-223
pins: 1 GND, 2 VO, 3 VI

## AP1117-33
designator *  value AP1117-33  Reference: U
1A Low Dropout regulator, positive, 3.3V fixed output, SOT-223; ki_keywords: linear regulator ldo fixed positive obsolete; ki_fp_filters: SOT?223*TabPin2*; Footprint: Package_TO_SOT_SMD:SOT-223-3_TabPin2; Datasheet: http://www.diodes.com/datasheets/AP1117.pdf; Description_: 1A Low Dropout regulator, positive, 3.3V fixed output, SOT-223
pins: 1 GND, 2 VO, 3 VI

## AP1117-50
designator *  value AP1117-50  Reference: U
1A Low Dropout regulator, positive, 5.0V fixed output, SOT-223; ki_keywords: linear regulator ldo fixed positive obsolete; ki_fp_filters: SOT?223*TabPin2*; Footprint: Package_TO_SOT_SMD:SOT-223-3_TabPin2; Datasheet: http://www.diodes.com/datasheets/AP1117.pdf; Description_: 1A Low Dropout regulator, positive, 5.0V fixed output, SOT-223
pins: 1 GND, 2 VO, 3 VI

## AP1117-ADJ
designator *  value AP1117-ADJ  Reference: U
1A Low Dropout regulator, positive, adjustable output, SOT-223; ki_keywords: linear regulator ldo adjustable positive obsolete; ki_fp_filters: SOT?223*TabPin2*; Footprint: Package_TO_SOT_SMD:SOT-223-3_TabPin2; Datasheet: http://www.diodes.com/datasheets/AP1117.pdf; Description_: 1A Low Dropout regulator, positive, adjustable output, SOT-223
pins: 1 ADJ, 2 VO, 3 VI

## AP2112K-1.2
designator *  value AP2112K-1.2  Reference: U
600mA low dropout linear regulator, with enable pin, 2.5V-6V input voltage range, 1.2V fixed positive output, SOT-23-5; ki_keywords: linear regulator ldo fixed positive; ki_fp_filters: SOT?23?5*; Footprint: Package_TO_SOT_SMD:SOT-23-5; Datasheet: https://www.diodes.com/assets/Datasheets/AP2112.pdf; Description_: 600mA low dropout linear regulator, with enable pin, 2.5V-6V input voltage range, 1.2V fixed positive output, SOT-23-5
pins: 1 VIN, 2 GND, 3 EN, 4 NC, 5 VOUT

## AP2112K-1.8
designator *  value AP2112K-1.8  Reference: U
600mA low dropout linear regulator, with enable pin, 2.5V-6V input voltage range, 1.8V fixed positive output, SOT-23-5; ki_keywords: linear regulator ldo fixed positive; ki_fp_filters: SOT?23?5*; Footprint: Package_TO_SOT_SMD:SOT-23-5; Datasheet: https://www.diodes.com/assets/Datasheets/AP2112.pdf; Description_: 600mA low dropout linear regulator, with enable pin, 2.5V-6V input voltage range, 1.8V fixed positive output, SOT-23-5
pins: 1 VIN, 2 GND, 3 EN, 4 NC, 5 VOUT

## AP2112K-2.5
designator *  value AP2112K-2.5  Reference: U
600mA low dropout linear regulator, with enable pin, 3V-6V input voltage range, 2.5V fixed positive output, SOT-23-5; ki_keywords: linear regulator ldo fixed positive; ki_fp_filters: SOT?23?5*; Footprint: Package_TO_SOT_SMD:SOT-23-5; Datasheet: https://www.diodes.com/assets/Datasheets/AP2112.pdf; Description_: 600mA low dropout linear regulator, with enable pin, 3V-6V input voltage range, 2.5V fixed positive output, SOT-23-5
pins: 1 VIN, 2 GND, 3 EN, 4 NC, 5 VOUT

## AP2112K-2.6
designator *  value AP2112K-2.6  Reference: U
600mA low dropout linear regulator, with enable pin, 3.1V-6V input voltage range, 2.6V fixed positive output, SOT-23-5; ki_keywords: linear regulator ldo fixed positive; ki_fp_filters: SOT?23?5*; Footprint: Package_TO_SOT_SMD:SOT-23-5; Datasheet: https://www.diodes.com/assets/Datasheets/AP2112.pdf; Description_: 600mA low dropout linear regulator, with enable pin, 3.1V-6V input voltage range, 2.6V fixed positive output, SOT-23-5
pins: 1 VIN, 2 GND, 3 EN, 4 NC, 5 VOUT

## AP2112K-3.3
designator *  value AP2112K-3.3  Reference: U
600mA low dropout linear regulator, with enable pin, 3.8V-6V input voltage range, 3.3V fixed positive output, SOT-23-5; ki_keywords: linear regulator ldo fixed positive; ki_fp_filters: SOT?23?5*; Footprint: Package_TO_SOT_SMD:SOT-23-5; Datasheet: https://www.diodes.com/assets/Datasheets/AP2112.pdf; Description_: 600mA low dropout linear regulator, with enable pin, 3.8V-6V input voltage range, 3.3V fixed positive output, SOT-23-5
pins: 1 VIN, 2 GND, 3 EN, 4 NC, 5 VOUT

## AP2127K-1.0
designator *  value AP2127K-1.0  Reference: U
300mA low dropout linear regulator, shutdown pin, 2.5V-6V input voltage, 1.0V fixed positive output, SOT-23-5; ki_keywords: linear regulator ldo fixed positive; ki_fp_filters: SOT?23?5*; Footprint: Package_TO_SOT_SMD:SOT-23-5; Datasheet: https://www.diodes.com/assets/Datasheets/AP2127.pdf; Description_: 300mA low dropout linear regulator, shutdown pin, 2.5V-6V input voltage, 1.0V fixed positive output, SOT-23-5
pins: 1 VIN, 2 GND, 3 EN, 4 NC, 5 VOUT

## AP2127K-1.2
designator *  value AP2127K-1.2  Reference: U
300mA low dropout linear regulator, shutdown pin, 2.5V-6V input voltage, 1.2V fixed positive output, SOT-23-5; ki_keywords: linear regulator ldo fixed positive; ki_fp_filters: SOT?23?5*; Footprint: Package_TO_SOT_SMD:SOT-23-5; Datasheet: https://www.diodes.com/assets/Datasheets/AP2127.pdf; Description_: 300mA low dropout linear regulator, shutdown pin, 2.5V-6V input voltage, 1.2V fixed positive output, SOT-23-5
pins: 1 VIN, 2 GND, 3 EN, 4 NC, 5 VOUT

## AP2127K-1.5
designator *  value AP2127K-1.5  Reference: U
300mA low dropout linear regulator, shutdown pin, 2.5V-6V input voltage, 1.5V fixed positive output, SOT-23-5; ki_keywords: linear regulator ldo fixed positive; ki_fp_filters: SOT?23?5*; Footprint: Package_TO_SOT_SMD:SOT-23-5; Datasheet: https://www.diodes.com/assets/Datasheets/AP2127.pdf; Description_: 300mA low dropout linear regulator, shutdown pin, 2.5V-6V input voltage, 1.5V fixed positive output, SOT-23-5
pins: 1 VIN, 2 GND, 3 EN, 4 NC, 5 VOUT

## AP2127K-1.8
designator *  value AP2127K-1.8  Reference: U
300mA low dropout linear regulator, shutdown pin, 2.5V-6V input voltage, 1.8V fixed positive output, SOT-23-5; ki_keywords: linear regulator ldo fixed positive; ki_fp_filters: SOT?23?5*; Footprint: Package_TO_SOT_SMD:SOT-23-5; Datasheet: https://www.diodes.com/assets/Datasheets/AP2127.pdf; Description_: 300mA low dropout linear regulator, shutdown pin, 2.5V-6V input voltage, 1.8V fixed positive output, SOT-23-5
pins: 1 VIN, 2 GND, 3 EN, 4 NC, 5 VOUT

## AP2127K-2.5
designator *  value AP2127K-2.5  Reference: U
300mA low dropout linear regulator, shutdown pin, 2.5V-6V input voltage, 2.5V fixed positive output, SOT-23-5; ki_keywords: linear regulator ldo fixed positive; ki_fp_filters: SOT?23?5*; Footprint: Package_TO_SOT_SMD:SOT-23-5; Datasheet: https://www.diodes.com/assets/Datasheets/AP2127.pdf; Description_: 300mA low dropout linear regulator, shutdown pin, 2.5V-6V input voltage, 2.5V fixed positive output, SOT-23-5
pins: 1 VIN, 2 GND, 3 EN, 4 NC, 5 VOUT

## AP2127K-2.8
designator *  value AP2127K-2.8  Reference: U
300mA low dropout linear regulator, shutdown pin, 2.5V-6V input voltage, 2.8V fixed positive output, SOT-23-5; ki_keywords: linear regulator ldo fixed positive; ki_fp_filters: SOT?23?5*; Footprint: Package_TO_SOT_SMD:SOT-23-5; Datasheet: https://www.diodes.com/assets/Datasheets/AP2127.pdf; Description_: 300mA low dropout linear regulator, shutdown pin, 2.5V-6V input voltage, 2.8V fixed positive output, SOT-23-5
pins: 1 VIN, 2 GND, 3 EN, 4 NC, 5 VOUT

## AP2127K-3.0
designator *  value AP2127K-3.0  Reference: U
300mA low dropout linear regulator, shutdown pin, 2.5V-6V input voltage, 3.0V fixed positive output, SOT-23-5; ki_keywords: linear regulator ldo fixed positive; ki_fp_filters: SOT?23?5*; Footprint: Package_TO_SOT_SMD:SOT-23-5; Datasheet: https://www.diodes.com/assets/Datasheets/AP2127.pdf; Description_: 300mA low dropout linear regulator, shutdown pin, 2.5V-6V input voltage, 3.0V fixed positive output, SOT-23-5
pins: 1 VIN, 2 GND, 3 EN, 4 NC, 5 VOUT

## AP2127K-3.3
designator *  value AP2127K-3.3  Reference: U
300mA low dropout linear regulator, shutdown pin, 2.5V-6V input voltage, 3.3V fixed positive output, SOT-23-5; ki_keywords: linear regulator ldo fixed positive; ki_fp_filters: SOT?23?5*; Footprint: Package_TO_SOT_SMD:SOT-23-5; Datasheet: https://www.diodes.com/assets/Datasheets/AP2127.pdf; Description_: 300mA low dropout linear regulator, shutdown pin, 2.5V-6V input voltage, 3.3V fixed positive output, SOT-23-5
pins: 1 VIN, 2 GND, 3 EN, 4 NC, 5 VOUT

## AP2127K-4.2
designator *  value AP2127K-4.2  Reference: U
300mA low dropout linear regulator, shutdown pin, 2.5V-6V input voltage, 4.2V fixed positive output, SOT-23-5; ki_keywords: linear regulator ldo fixed positive; ki_fp_filters: SOT?23?5*; Footprint: Package_TO_SOT_SMD:SOT-23-5; Datasheet: https://www.diodes.com/assets/Datasheets/AP2127.pdf; Description_: 300mA low dropout linear regulator, shutdown pin, 2.5V-6V input voltage, 4.2V fixed positive output, SOT-23-5
pins: 1 VIN, 2 GND, 3 EN, 4 NC, 5 VOUT

## AP2127K-4.75
designator *  value AP2127K-4.75  Reference: U
300mA low dropout linear regulator, shutdown pin, 2.5V-6V input voltage, 4.75V fixed positive output, SOT-23-5; ki_keywords: linear regulator ldo fixed positive; ki_fp_filters: SOT?23?5*; Footprint: Package_TO_SOT_SMD:SOT-23-5; Datasheet: https://www.diodes.com/assets/Datasheets/AP2127.pdf; Description_: 300mA low dropout linear regulator, shutdown pin, 2.5V-6V input voltage, 4.75V fixed positive output, SOT-23-5
pins: 1 VIN, 2 GND, 3 EN, 4 NC, 5 VOUT

## AP2127K-ADJ
designator *  value AP2127K-ADJ  Reference: U
300mA low dropout adjustable linear regulator, shutdown pin, 2.5V-6V input voltage, SOT-23-5 package; ki_keywords: linear regulator ldo adjustable positive; ki_fp_filters: SOT?23?5*; Footprint: Package_TO_SOT_SMD:SOT-23-5; Datasheet: https://www.diodes.com/assets/Datasheets/AP2127.pdf; Description_: 300mA low dropout adjustable linear regulator, shutdown pin, 2.5V-6V input voltage, SOT-23-5 package
pins: 1 VIN, 2 GND, 3 EN, 4 ADJ, 5 VOUT

## AP2127N3-1.2
designator *  value AP2127N3-1.2  Reference: U
300mA low dropout linear regulator, shutdown pin, 2.5V-6V input voltage, 1.2V fixed positive output, SOT-23-3 package; ki_keywords: linear regulator ldo fixed positive; ki_fp_filters: TSOT?23*; Footprint: Package_TO_SOT_SMD:TSOT-23; Datasheet: https://www.diodes.com/assets/Datasheets/AP2127.pdf; Description_: 300mA low dropout linear regulator, shutdown pin, 2.5V-6V input voltage, 1.2V fixed positive output, SOT-23-3 package
pins: 1 GND, 2 VO, 3 VI

## AP2127N3-1.5
designator *  value AP2127N3-1.5  Reference: U
300mA low dropout linear regulator, shutdown pin, 2.5V-6V input voltage, 1.5V fixed positive output, SOT-23-3 package; ki_keywords: linear regulator ldo fixed positive; ki_fp_filters: TSOT?23*; Footprint: Package_TO_SOT_SMD:TSOT-23; Datasheet: https://www.diodes.com/assets/Datasheets/AP2127.pdf; Description_: 300mA low dropout linear regulator, shutdown pin, 2.5V-6V input voltage, 1.5V fixed positive output, SOT-23-3 package
pins: 1 GND, 2 VO, 3 VI

## AP2127N-1.0
designator *  value AP2127N-1.0  Reference: U
300mA low dropout linear regulator, shutdown pin, 2.5V-6V input voltage, 1.0V fixed positive output, SOT-23 package; ki_keywords: linear regulator ldo fixed positive; ki_fp_filters: SOT?23*; Footprint: Package_TO_SOT_SMD:SOT-23; Datasheet: https://www.diodes.com/assets/Datasheets/AP2127.pdf; Description_: 300mA low dropout linear regulator, shutdown pin, 2.5V-6V input voltage, 1.0V fixed positive output, SOT-23 package
pins: 1 GND, 2 VO, 3 VI

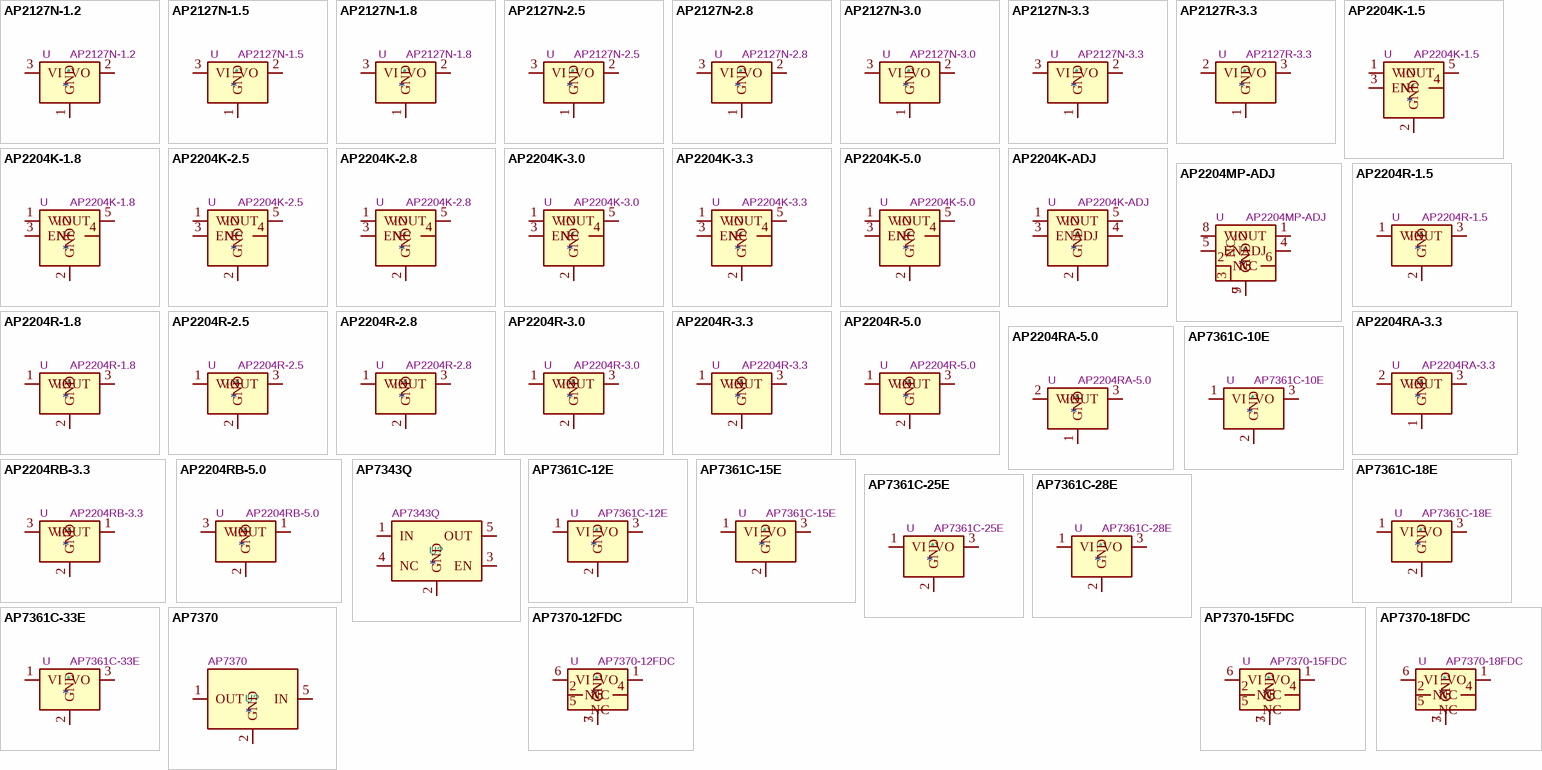
[diagram p2: symbols AP2127N-1.2 to AP7370-18FDC]

## AP2127N-1.2
designator *  value AP2127N-1.2  Reference: U
300mA low dropout linear regulator, shutdown pin, 2.5V-6V input voltage, 1.2V fixed positive output, SOT-23 package; ki_keywords: linear regulator ldo fixed positive; ki_fp_filters: SOT?23*; Footprint: Package_TO_SOT_SMD:SOT-23; Datasheet: https://www.diodes.com/assets/Datasheets/AP2127.pdf; Description_: 300mA low dropout linear regulator, shutdown pin, 2.5V-6V input voltage, 1.2V fixed positive output, SOT-23 package
pins: 1 GND, 2 VO, 3 VI

## AP2127N-1.5
designator *  value AP2127N-1.5  Reference: U
300mA low dropout linear regulator, shutdown pin, 2.5V-6V input voltage, 1.5V fixed positive output, SOT-23 package; ki_keywords: linear regulator ldo fixed positive; ki_fp_filters: SOT?23*; Footprint: Package_TO_SOT_SMD:SOT-23; Datasheet: https://www.diodes.com/assets/Datasheets/AP2127.pdf; Description_: 300mA low dropout linear regulator, shutdown pin, 2.5V-6V input voltage, 1.5V fixed positive output, SOT-23 package
pins: 1 GND, 2 VO, 3 VI

## AP2127N-1.8
designator *  value AP2127N-1.8  Reference: U
300mA low dropout linear regulator, shutdown pin, 2.5V-6V input voltage, 1.8V fixed positive output, SOT-23 package; ki_keywords: linear regulator ldo fixed positive; ki_fp_filters: SOT?23*; Footprint: Package_TO_SOT_SMD:SOT-23; Datasheet: https://www.diodes.com/assets/Datasheets/AP2127.pdf; Description_: 300mA low dropout linear regulator, shutdown pin, 2.5V-6V input voltage, 1.8V fixed positive output, SOT-23 package
pins: 1 GND, 2 VO, 3 VI

## AP2127N-2.5
designator *  value AP2127N-2.5  Reference: U
300mA low dropout linear regulator, shutdown pin, 2.5V-6V input voltage, 2.5V fixed positive output, SOT-23 package; ki_keywords: linear regulator ldo fixed positive; ki_fp_filters: SOT?23*; Footprint: Package_TO_SOT_SMD:SOT-23; Datasheet: https://www.diodes.com/assets/Datasheets/AP2127.pdf; Description_: 300mA low dropout linear regulator, shutdown pin, 2.5V-6V input voltage, 2.5V fixed positive output, SOT-23 package
pins: 1 GND, 2 VO, 3 VI

## AP2127N-2.8
designator *  value AP2127N-2.8  Reference: U
300mA low dropout linear regulator, shutdown pin, 2.5V-6V input voltage, 2.8V fixed positive output, SOT-23 package; ki_keywords: linear regulator ldo fixed positive; ki_fp_filters: SOT?23*; Footprint: Package_TO_SOT_SMD:SOT-23; Datasheet: https://www.diodes.com/assets/Datasheets/AP2127.pdf; Description_: 300mA low dropout linear regulator, shutdown pin, 2.5V-6V input voltage, 2.8V fixed positive output, SOT-23 package
pins: 1 GND, 2 VO, 3 VI

## AP2127N-3.0
designator *  value AP2127N-3.0  Reference: U
300mA low dropout linear regulator, shutdown pin, 2.5V-6V input voltage, 3.0V fixed positive output, SOT-23 package; ki_keywords: linear regulator ldo fixed positive; ki_fp_filters: SOT?23*; Footprint: Package_TO_SOT_SMD:SOT-23; Datasheet: https://www.diodes.com/assets/Datasheets/AP2127.pdf; Description_: 300mA low dropout linear regulator, shutdown pin, 2.5V-6V input voltage, 3.0V fixed positive output, SOT-23 package
pins: 1 GND, 2 VO, 3 VI

## AP2127N-3.3
designator *  value AP2127N-3.3  Reference: U
300mA low dropout linear regulator, shutdown pin, 2.5V-6V input voltage, 3.3V fixed positive output, SOT-23 package; ki_keywords: linear regulator ldo fixed positive; ki_fp_filters: SOT?23*; Footprint: Package_TO_SOT_SMD:SOT-23; Datasheet: https://www.diodes.com/assets/Datasheets/AP2127.pdf; Description_: 300mA low dropout linear regulator, shutdown pin, 2.5V-6V input voltage, 3.3V fixed positive output, SOT-23 package
pins: 1 GND, 2 VO, 3 VI

## AP2127R-3.3
designator *  value AP2127R-3.3  Reference: U
300mA low dropout linear regulator, shutdown pin, 2.5V-6V input voltage, 3.3V fixed positive output, SOT-89 package; ki_keywords: linear regulator ldo fixed positive; ki_fp_filters: SOT?89*; Footprint: Package_TO_SOT_SMD:SOT-89-3; Datasheet: https://www.diodes.com/assets/Datasheets/AP2127.pdf; Description_: 300mA low dropout linear regulator, shutdown pin, 2.5V-6V input voltage, 3.3V fixed positive output, SOT-89 package
pins: 1 GND, 2 VI, 3 VO

## AP2204K-1.5
designator *  value AP2204K-1.5  Reference: U
150mA low dropout linear regulator, wide input voltage range, 1.5V fixed positive output, SOT-23-5; ki_keywords: linear regulator ldo fixed positive; ki_fp_filters: SOT?23?5*; Footprint: Package_TO_SOT_SMD:SOT-23-5; Datasheet: https://www.diodes.com/assets/Datasheets/AP2204.pdf; Description_: 150mA low dropout linear regulator, wide input voltage range, 1.5V fixed positive output, SOT-23-5
pins: 1 VIN, 2 GND, 3 EN, 4 NC, 5 VOUT

## AP2204K-1.8
designator *  value AP2204K-1.8  Reference: U
150mA low dropout linear regulator, wide input voltage range, 1.8V fixed positive output, SOT-23-5; ki_keywords: linear regulator ldo fixed positive; ki_fp_filters: SOT?23?5*; Footprint: Package_TO_SOT_SMD:SOT-23-5; Datasheet: https://www.diodes.com/assets/Datasheets/AP2204.pdf; Description_: 150mA low dropout linear regulator, wide input voltage range, 1.8V fixed positive output, SOT-23-5
pins: 1 VIN, 2 GND, 3 EN, 4 NC, 5 VOUT

## AP2204K-2.5
designator *  value AP2204K-2.5  Reference: U
150mA low dropout linear regulator, wide input voltage range, 2.5V fixed positive output, SOT-23-5; ki_keywords: linear regulator ldo fixed positive; ki_fp_filters: SOT?23?5*; Footprint: Package_TO_SOT_SMD:SOT-23-5; Datasheet: https://www.diodes.com/assets/Datasheets/AP2204.pdf; Description_: 150mA low dropout linear regulator, wide input voltage range, 2.5V fixed positive output, SOT-23-5
pins: 1 VIN, 2 GND, 3 EN, 4 NC, 5 VOUT

## AP2204K-2.8
designator *  value AP2204K-2.8  Reference: U
150mA low dropout linear regulator, wide input voltage range, 2.8V fixed positive output, SOT-23-5; ki_keywords: linear regulator ldo fixed positive; ki_fp_filters: SOT?23?5*; Footprint: Package_TO_SOT_SMD:SOT-23-5; Datasheet: https://www.diodes.com/assets/Datasheets/AP2204.pdf; Description_: 150mA low dropout linear regulator, wide input voltage range, 2.8V fixed positive output, SOT-23-5
pins: 1 VIN, 2 GND, 3 EN, 4 NC, 5 VOUT

## AP2204K-3.0
designator *  value AP2204K-3.0  Reference: U
150mA low dropout linear regulator, wide input voltage range, 3.0V fixed positive output, SOT-23-5; ki_keywords: linear regulator ldo fixed positive; ki_fp_filters: SOT?23?5*; Footprint: Package_TO_SOT_SMD:SOT-23-5; Datasheet: https://www.diodes.com/assets/Datasheets/AP2204.pdf; Description_: 150mA low dropout linear regulator, wide input voltage range, 3.0V fixed positive output, SOT-23-5
pins: 1 VIN, 2 GND, 3 EN, 4 NC, 5 VOUT

## AP2204K-3.3
designator *  value AP2204K-3.3  Reference: U
150mA low dropout linear regulator, wide input voltage range, 3.3V fixed positive output, SOT-23-5; ki_keywords: linear regulator ldo fixed positive; ki_fp_filters: SOT?23?5*; Footprint: Package_TO_SOT_SMD:SOT-23-5; Datasheet: https://www.diodes.com/assets/Datasheets/AP2204.pdf; Description_: 150mA low dropout linear regulator, wide input voltage range, 3.3V fixed positive output, SOT-23-5
pins: 1 VIN, 2 GND, 3 EN, 4 NC, 5 VOUT

## AP2204K-5.0
designator *  value AP2204K-5.0  Reference: U
150mA low dropout linear regulator, wide input voltage range, 5.0V fixed positive output, SOT-23-5; ki_keywords: linear regulator ldo fixed positive; ki_fp_filters: SOT?23?5*; Footprint: Package_TO_SOT_SMD:SOT-23-5; Datasheet: https://www.diodes.com/assets/Datasheets/AP2204.pdf; Description_: 150mA low dropout linear regulator, wide input voltage range, 5.0V fixed positive output, SOT-23-5
pins: 1 VIN, 2 GND, 3 EN, 4 NC, 5 VOUT

## AP2204K-ADJ
designator *  value AP2204K-ADJ  Reference: U
150mA low dropout adjustable linear regulator, wide input voltage range, SOT-23-5 package; ki_keywords: linear regulator ldo adjustable positive; ki_fp_filters: SOT?23?5*; Footprint: Package_TO_SOT_SMD:SOT-23-5; Datasheet: https://www.diodes.com/assets/Datasheets/products_inactive_data/AP2204.pdf; Description_: 150mA low dropout adjustable linear regulator, wide input voltage range, SOT-23-5 package
pins: 1 VIN, 2 GND, 3 EN, 4 ADJ, 5 VOUT

## AP2204MP-ADJ
designator *  value AP2204MP-ADJ  Reference: U
150mA low dropout adjustable linear regulator, wide input voltage range, PSOP-8 package; ki_keywords: linear regulator ldo adjustable positive; ki_fp_filters: Diodes*PSOP*; Footprint: Package_SO:Diodes_PSOP-8; Datasheet: https://www.diodes.com/assets/Datasheets/AP2204.pdf; Description_: 150mA low dropout adjustable linear regulator, wide input voltage range, PSOP-8 package
pins: 1 VOUT, 2 NC, 3 NC, 4 ADJ, 5 EN, 6 NC, 7 GND, 8 VIN, 9 GND

## AP2204R-1.5
designator *  value AP2204R-1.5  Reference: U
150mA low dropout linear regulator, wide input voltage range, 1.5V fixed positive output, SOT-89-3 package; ki_keywords: linear regulator ldo fixed positive; ki_fp_filters: SOT?89*; Footprint: Package_TO_SOT_SMD:SOT-89-3; Datasheet: https://www.diodes.com/assets/Datasheets/products_inactive_data/AP2204.pdf; Description_: 150mA low dropout linear regulator, wide input voltage range, 1.5V fixed positive output, SOT-89-3 package
pins: 1 VIN, 2 GND, 3 VOUT

## AP2204R-1.8
designator *  value AP2204R-1.8  Reference: U
150mA low dropout linear regulator, wide input voltage range, 1.8V fixed positive output, SOT-89-3 package; ki_keywords: linear regulator ldo fixed positive; ki_fp_filters: SOT?89*; Footprint: Package_TO_SOT_SMD:SOT-89-3; Datasheet: https://www.diodes.com/assets/Datasheets/products_inactive_data/AP2204.pdf; Description_: 150mA low dropout linear regulator, wide input voltage range, 1.8V fixed positive output, SOT-89-3 package
pins: 1 VIN, 2 GND, 3 VOUT

## AP2204R-2.5
designator *  value AP2204R-2.5  Reference: U
150mA low dropout linear regulator, wide input voltage range, 2.5V fixed positive output, SOT-89-3 package; ki_keywords: linear regulator ldo fixed positive; ki_fp_filters: SOT?89*; Footprint: Package_TO_SOT_SMD:SOT-89-3; Datasheet: https://www.diodes.com/assets/Datasheets/products_inactive_data/AP2204.pdf; Description_: 150mA low dropout linear regulator, wide input voltage range, 2.5V fixed positive output, SOT-89-3 package
pins: 1 VIN, 2 GND, 3 VOUT

## AP2204R-2.8
designator *  value AP2204R-2.8  Reference: U
150mA low dropout linear regulator, wide input voltage range, 2.8V fixed positive output, SOT-89-3 package; ki_keywords: linear regulator ldo fixed positive; ki_fp_filters: SOT?89*; Footprint: Package_TO_SOT_SMD:SOT-89-3; Datasheet: https://www.diodes.com/assets/Datasheets/products_inactive_data/AP2204.pdf; Description_: 150mA low dropout linear regulator, wide input voltage range, 2.8V fixed positive output, SOT-89-3 package
pins: 1 VIN, 2 GND, 3 VOUT

## AP2204R-3.0
designator *  value AP2204R-3.0  Reference: U
150mA low dropout linear regulator, wide input voltage range, 3.0V fixed positive output, SOT-89-3 package; ki_keywords: linear regulator ldo fixed positive; ki_fp_filters: SOT?89*; Footprint: Package_TO_SOT_SMD:SOT-89-3; Datasheet: https://www.diodes.com/assets/Datasheets/products_inactive_data/AP2204.pdf; Description_: 150mA low dropout linear regulator, wide input voltage range, 3.0V fixed positive output, SOT-89-3 package
pins: 1 VIN, 2 GND, 3 VOUT

## AP2204R-3.3
designator *  value AP2204R-3.3  Reference: U
150mA low dropout linear regulator, wide input voltage range, 3.3V fixed positive output, SOT-89-3 package; ki_keywords: linear regulator ldo fixed positive; ki_fp_filters: SOT?89*; Footprint: Package_TO_SOT_SMD:SOT-89-3; Datasheet: https://www.diodes.com/assets/Datasheets/products_inactive_data/AP2204.pdf; Description_: 150mA low dropout linear regulator, wide input voltage range, 3.3V fixed positive output, SOT-89-3 package
pins: 1 VIN, 2 GND, 3 VOUT